# Altium integrated library WE-VE_ULC_rev16a.intlib: 3 symbols
Pins are listed as number, name and electrical type; pins without a type are passive.

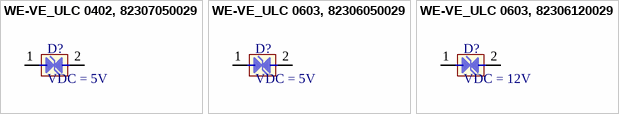
[diagram p0: symbols WE-VE_ULC 0402, 82307050029 to WE-VE_ULC 0603, 82306120029]

## WE-VE_ULC 0402, 82307050029
designator D?, comment VDC = 5V
WE-VE ULC ESD Suppressor, VDC = 5V; PartNo: 82307050029; Manufacturer: Wurth Elektronik; VDC: 5V; ComponentLink1Description: Manufacturer; ComponentLink1URL: http://www.we-online.de; Created by: BJ.Chen; Created Date: Jan 2016; ComponentLink2Description: Datasheet; ComponentLink2URL: http://katalog.we-online.de/pbs/datasheet/82307050029.pdf
footprint WE-VE ULC_0402 (0402, 2-Leads, Body 1.0x0.5mm, Pitch 1.5mm)
pins: 1 I/O1, 2 I/O2

## WE-VE_ULC 0603, 82306050029
designator D?, comment VDC = 5V
WE-VE ULC ESD Suppressor, VDC = 5V; PartNo: 82306050029; Manufacturer: Wurth Elektronik; VDC: 5V; ComponentLink1Description: Manufacturer; ComponentLink1URL: http://www.we-online.de; Created by: BJ.Chen; Created Date: Jan 2016; ComponentLink2Description: Datasheet; ComponentLink2URL: http://katalog.we-online.de/pbs/datasheet/82306050029.pdf
footprint WE-VE ULC_0603 (0603, 2-Leads, Body 1.6x0.8mm, Pitch 1.6mm)
pins: 1 I/O1, 2 I/O2

## WE-VE_ULC 0603, 82306120029
designator D?, comment VDC = 12V
WE-VE ULC ESD Suppressor, VDC = 12V; PartNo: 82306120029; Manufacturer: Wurth Elektronik; VDC: 12V; ComponentLink1Description: Manufacturer; ComponentLink1URL: http://www.we-online.de; Created by: BJ.Chen; Created Date: Jan 2016; ComponentLink2Description: Datasheet; ComponentLink2URL: http://katalog.we-online.de/pbs/datasheet/82306120029.pdf
footprint WE-VE ULC_0603 (0603, 2-Leads, Body 1.6x0.8mm, Pitch 1.6mm)
pins: 1 I/O1, 2 I/O2